# Altium integrated library CON6 - 830-10-006-10-005000.IntLib: 1 symbol
Pins are listed as number, name and electrical type; pins without a type are passive.

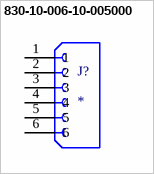
[diagram p0: symbol 830-10-006-10-005000]

## 830-10-006-10-005000
designator J?
6 Position Header Connector Solder Cup Gold; MF: Mill-Max Manufacturing Corp.; MP: 830-10-006-10-005000; Price: None; Value: *; Check_prices: https://www.snapeda.com/parts/830-10-006-10-005000/Mill-Max%20Manufacturing%20Corp./view-part/6308393/?ref=eda; Package: None; SnapEDA_Link: https://www.snapeda.com/parts/830-10-006-10-005000/Mill-Max%20Manufacturing%20Corp./view-part/6308393/?ref=snap; Purchase-URL: https://pricing.snapeda.com/search/part/830-10-006-10-005000/?ref=eda; Availability: In Stock
footprint MILL-MAX_830-10-006-10-005000
pins: 1, 2, 3, 4, 5, 6